# Altium footprint library Small Outline Diode - 2 Yoke Leads.PcbLib: 1 footprints
Each footprint in its own frame and in the unit in brackets; x right, y up, seen from the top. Pads: shape width x height; smd on the part's side, far side on the other; paste and mask are expansions set on the pad; w line width, h text height; cw(c..) or ccw(c..) is an arc to the next point about the centre after c.
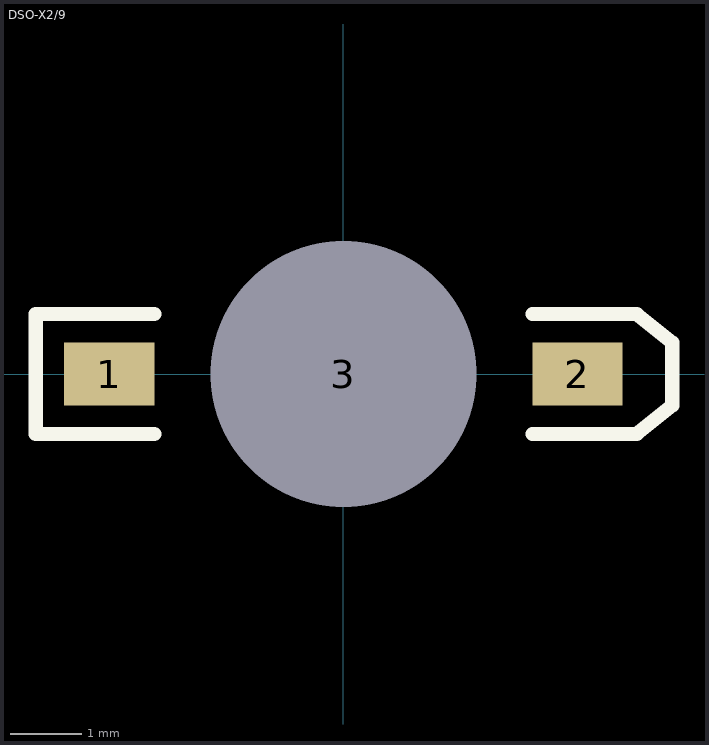
[diagram p0: the footprint, top view; thin cyan lines are the x and y axes]

## DSO-X2/9 [mm] "SMT LED; 2 Yoke Leads"
pads (3):
  rect 1.27x0.89 smd: 1(-3.3,0) 2(3.3,0)
  round 3.45 hole 3.75: 3(0,0)
Top Overlay:
  lines w0.2: -2.665,-0.845 -4.335,-0.845 -4.335,0.845 -2.665,0.845 ; 2.665,-0.845 4.135,-0.845 4.635,-0.445 4.635,0.445 4.135,0.845 2.665,0.845